# EAGLE library part MCP73833 (library LiPo_Lader)
MCP73833 Digikey: MCP73833T-AMI/UNCT-ND
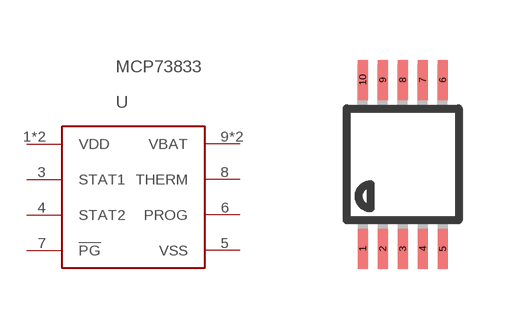
[diagram p0: symbol with the pads of MSOP10; footprint MSOP10]

Designator prefix U

## MCP73833  [MSOP10]
1  VDD
2  VDD
3  STAT1
4  STAT2
5  VSS
6  PROG
7  !PG!
8  THERM
9  VBAT
10  VBAT

## Footprint MSOP10 (pad centres in mm)
10-Lead Mini Small Outline Package [MSOP] (RM-10) Source: http://www.analog.com/UploadedFiles/Data_Sheets/35641221898805SSM2167_b.pdf COMPLIANT TO JEDEC STANDARDS MO-187BA
smd 0.25 x 1: 1 -1,-2.113; 2 -0.5,-2.113; 3 0,-2.113; 4 0.5,-2.113; 5 1,-2.113; 6 1,2.113; 7 0.5,2.113; 8 0,2.113; 9 -0.5,2.113; 10 -1,2.113